# EAGLE library part BMP280 (library Seeed-OPL-2017-01-Sensor-camilo)
314030010
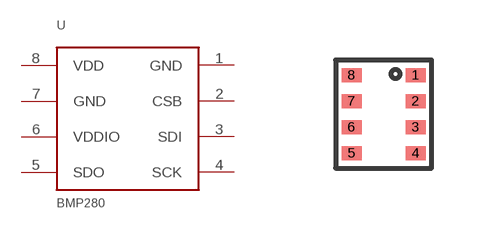
[diagram p2: symbol with the pads of BMP280; footprint BMP280]

Designator prefix U

## BMP280  [BMP280]
1  GND
2  CSB
3  SDI
4  SCK
5  SDO
6  VDDIO
7  GND
8  VDD

## Footprint BMP280 (pad centres in mm)
smd 0.5 x 0.35: 1 0.8,0.975; 2 0.8,0.325; 3 0.8,-0.325; 4 0.8,-0.975; 5 -0.8,-0.975; 6 -0.8,-0.325; 7 -0.8,0.325; 8 -0.8,0.975